# Altium footprint library Taiyo Yuden.PcbLib: 33 footprints (part 3 of 3)
Each footprint in its own frame and in the unit in brackets; x right, y up, seen from the top. Pads: shape width x height; smd on the part's side, far side on the other; paste and mask are expansions set on the pad; w line width, h text height; cw(c..) or ccw(c..) is an arc to the next point about the centre after c.
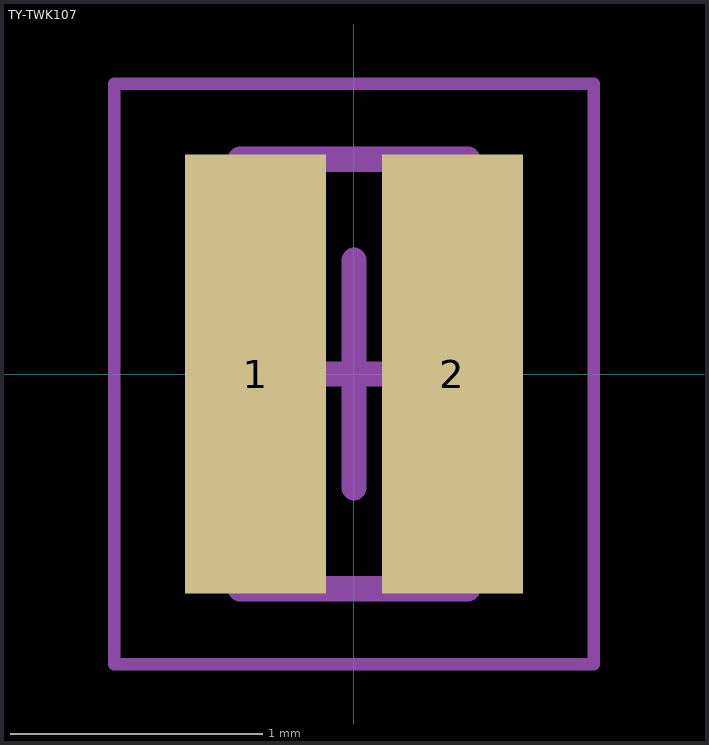
[diagram p2: the footprint, top view; thin cyan lines are the x and y axes]

## TY-TWK107 [mm] "Chip Capacitor, 2-Leads, Body 0.80x1.60mm, IPC Medium Density"
height 0.55
pads (2):
  rect 0.56x1.74 smd: 1(-0.39,0) 2(0.39,0)
Top Assembly:
  lines w0.1: -0.45,-0.85 0.45,-0.85 0.45,0.85 -0.45,0.85 -0.45,-0.85
Top Courtyard:
  lines w0.05: -0.95,-1.15 0.95,-1.15 0.95,1.15 -0.95,1.15 -0.95,-1.15
  lines w0.1: -0.45,0 0.45,0 ; 0,-0.45 0,0.45
3D body "CAPC0816X06N.step": height 0.55, standoff 0, extent -0.45,-0.85 0.45,0.85